# Altium footprint library PCB.PCBLIB: 320 footprints (part 8 of 20)
Each footprint in its own frame and in the unit in brackets; x right, y up, seen from the top. Pads: shape width x height; smd on the part's side, far side on the other; paste and mask are expansions set on the pad; w line width, h text height; cw(c..) or ccw(c..) is an arc to the next point about the centre after c.
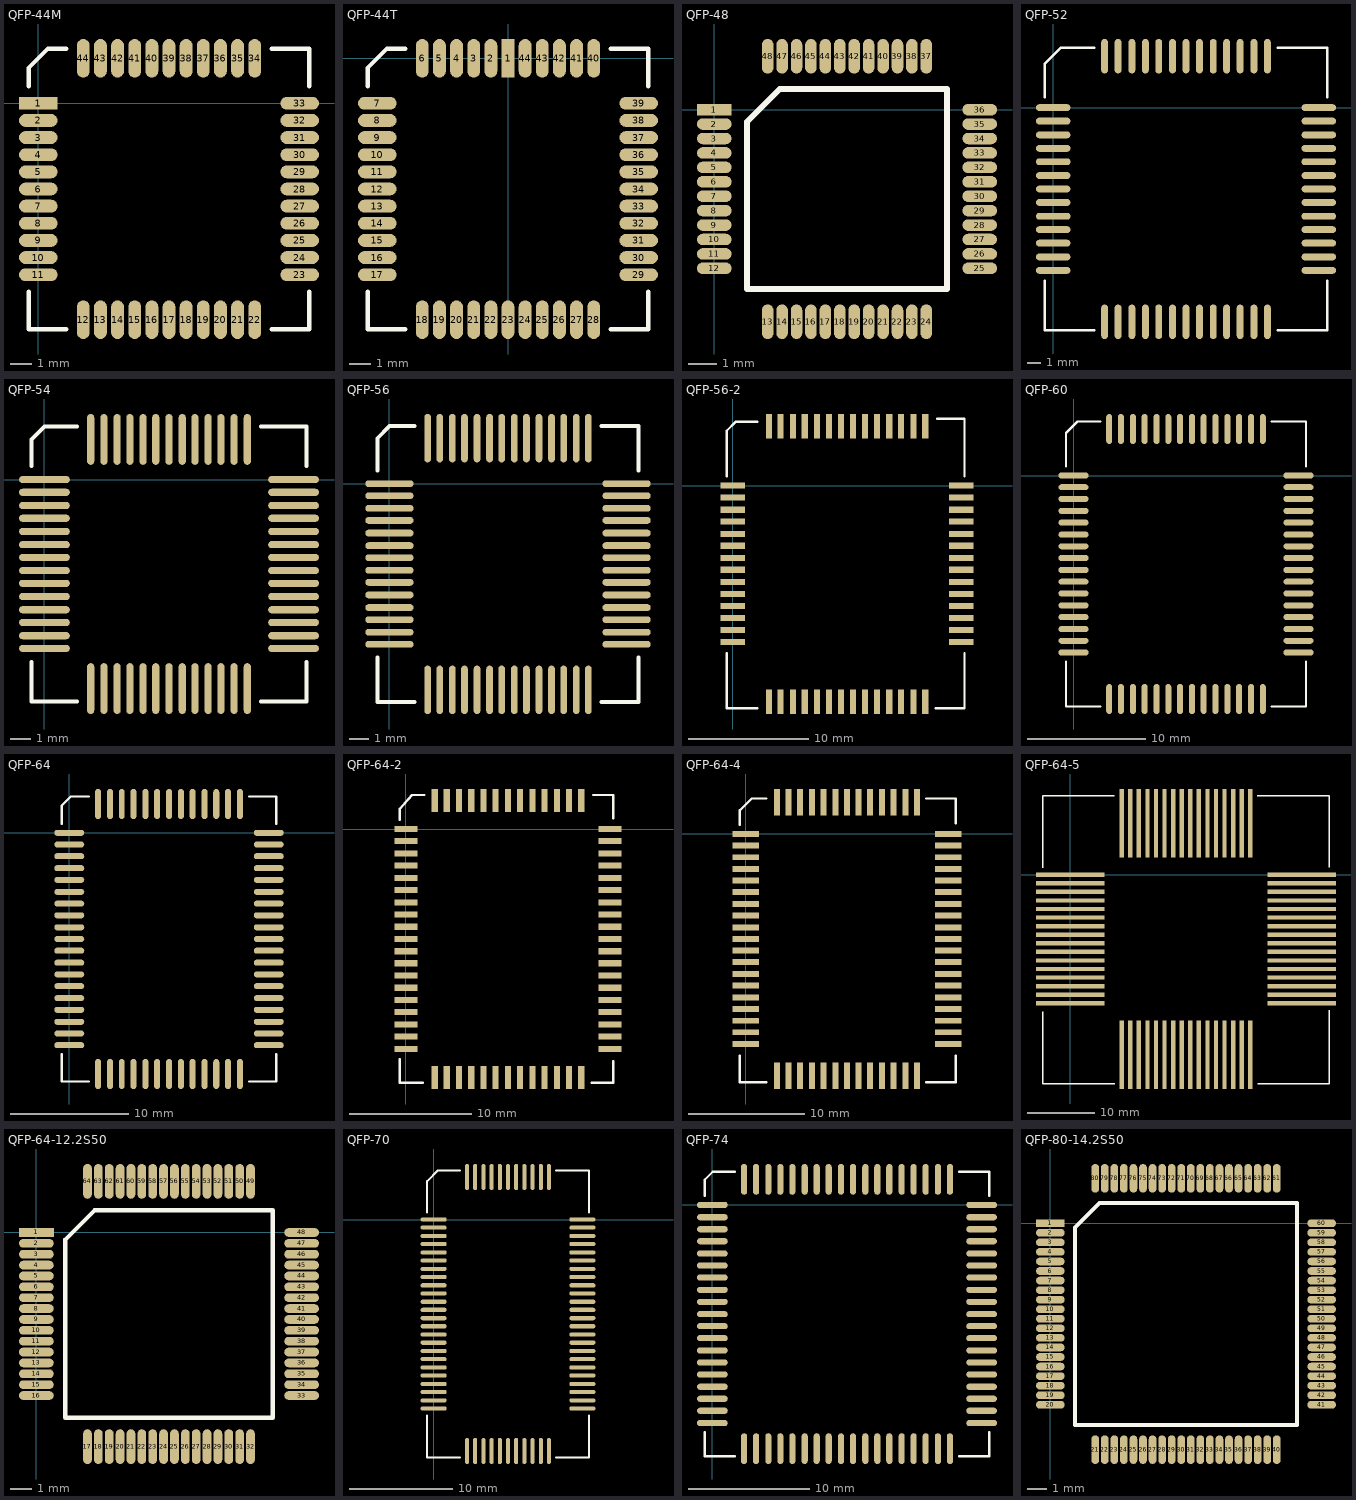
[diagram p7: the footprints below, top view; thin cyan lines are the x and y axes]

## QFP-44M [mm]
pads (44):
  rect 1.8x0.6 smd: 1(0,0)
  oval 1.8x0.6 smd: 2(0,-0.8) 3(0,-1.6) 4(0,-2.4) 5(0,-3.2) 6(0,-4) 7(0,-4.8) 8(0,-5.6) 9(0,-6.4) 10(0,-7.2) 11(0,-8) 23(12.2,-8) 24(12.2,-7.2) 25(12.2,-6.4) 26(12.2,-5.6) 27(12.2,-4.8) 28(12.2,-4) 29(12.2,-3.2) 30(12.2,-2.4) 31(12.2,-1.6) 32(12.2,-0.8) 33(12.2,0)
  oval 0.6x1.8 smd: 12(2.1,-10.1) 13(2.9,-10.1) 14(3.7,-10.1) 15(4.5,-10.1) 16(5.3,-10.1) 17(6.1,-10.1) 18(6.9,-10.1) 19(7.7,-10.1) 20(8.5,-10.1) 21(9.3,-10.1) 22(10.1,-10.1) 34(10.1,2.1) 35(9.3,2.1) 36(8.5,2.1) 37(7.7,2.1) 38(6.9,2.1) 39(6.1,2.1) 40(5.3,2.1) 41(4.5,2.1) 42(3.7,2.1) 43(2.9,2.1) 44(2.1,2.1)
TopOverlay:
  lines w0.2: -0.45,-8.8 -0.45,-10.55 1.3,-10.55 ; -0.45,0.8 -0.45,1.65 0.45,2.55 1.3,2.55 ; 10.9,-10.55 12.65,-10.55 12.65,-8.8 ; 10.9,2.55 12.65,2.55 12.65,0.8

## QFP-44T [mm]
pads (44):
  rect 0.6x1.8 smd: 1(0,0)
  oval 0.6x1.8 smd: 2(-0.8,0) 3(-1.6,0) 4(-2.4,0) 5(-3.2,0) 6(-4,0) 18(-4,-12.2) 19(-3.2,-12.2) 20(-2.4,-12.2) 21(-1.6,-12.2) 22(-0.8,-12.2) 23(0,-12.2) 24(0.8,-12.2) 25(1.6,-12.2) 26(2.4,-12.2) 27(3.2,-12.2) 28(4,-12.2) 40(4,0) 41(3.2,0) 42(2.4,0) 43(1.6,0) 44(0.8,0)
  oval 1.8x0.6 smd: 7(-6.1,-2.1) 8(-6.1,-2.9) 9(-6.1,-3.7) 10(-6.1,-4.5) 11(-6.1,-5.3) 12(-6.1,-6.1) 13(-6.1,-6.9) 14(-6.1,-7.7) 15(-6.1,-8.5) 16(-6.1,-9.3) 17(-6.1,-10.1) 29(6.1,-10.1) 30(6.1,-9.3) 31(6.1,-8.5) 32(6.1,-7.7) 33(6.1,-6.9) 34(6.1,-6.1) 35(6.1,-5.3) 36(6.1,-4.5) 37(6.1,-3.7) 38(6.1,-2.9) 39(6.1,-2.1)
TopOverlay:
  lines w0.2: -6.55,-10.9 -6.55,-12.65 -4.8,-12.65 ; -6.55,-1.3 -6.55,-0.45 -5.65,0.45 -4.8,0.45 ; 4.8,-12.65 6.55,-12.65 6.55,-10.9 ; 4.8,0.45 6.55,0.45 6.55,-1.3

## QFP-48 [mm]
pads (48):
  rect 1.2x0.4 smd: 1(0,0)
  oval 1.2x0.4 smd: 2(0,-0.5) 3(0,-1) 4(0,-1.5) 5(0,-2) 6(0,-2.5) 7(0,-3) 8(0,-3.5) 9(0,-4) 10(0,-4.5) 11(0,-5) 12(0,-5.5) 25(9.2,-5.5) 26(9.2,-5) 27(9.2,-4.5) 28(9.2,-4) 29(9.2,-3.5) 30(9.2,-3) 31(9.2,-2.5) 32(9.2,-2) 33(9.2,-1.5) 34(9.2,-1) 35(9.2,-0.5) 36(9.2,0)
  oval 0.4x1.2 smd: 13(1.85,-7.35) 14(2.35,-7.35) 15(2.85,-7.35) 16(3.35,-7.35) 17(3.85,-7.35) 18(4.35,-7.35) 19(4.85,-7.35) 20(5.35,-7.35) 21(5.85,-7.35) 22(6.35,-7.35) 23(6.85,-7.35) 24(7.35,-7.35) 37(7.35,1.85) 38(6.85,1.85) 39(6.35,1.85) 40(5.85,1.85) 41(5.35,1.85) 42(4.85,1.85) 43(4.35,1.85) 44(3.85,1.85) 45(3.35,1.85) 46(2.85,1.85) 47(2.35,1.85) 48(1.85,1.85)
TopOverlay:
  lines w0.2: 1.135,-6.215 8.065,-6.215 8.065,0.715 2.27,0.715 1.135,-0.42 1.135,-6.215

## QFP-52 [mil]
pads (52):
  oval 100x20 smd: 1(0,0) 2(0,-39) 3(0,-79) 4(0,-118) 5(0,-157) 6(0,-197) 7(0,-236) 8(0,-275) 9(0,-315) 10(0,-354) 11(0,-393) 12(0,-433) 13(0,-472) 27(770,-472) 28(770,-433) 29(770,-393) 30(770,-354) 31(770,-315) 32(770,-275) 33(770,-236) 34(770,-197) 35(770,-157) 36(770,-118) 37(770,-79) 38(770,-39) 39(770,0)
  oval 20x100 smd: 14(149,-621) 15(188,-621) 16(228,-621) 17(267,-621) 18(306,-621) 19(346,-621) 20(385,-621) 21(424,-621) 22(464,-621) 23(503,-621) 24(542,-621) 25(582,-621) 26(621,-621) 40(621,149) 41(582,149) 42(542,149) 43(503,149) 44(464,149) 45(424,149) 46(385,149) 47(346,149) 48(306,149) 49(267,149) 50(228,149) 51(188,149) 52(149,149)
TopOverlay:
  lines w7.87: -25,-502 -25,-646 119,-646 ; -25,30 -25,126 23,174 119,174 ; 651,-646 795,-646 795,-502 ; 651,174 795,174 795,30

## QFP-54 [mil]
pads (54):
  oval 100x14 smd: 1(0,0) 2(0,-25) 3(0,-51) 4(0,-76) 5(0,-102) 6(0,-128) 7(0,-153) 8(0,-179) 9(0,-204) 10(0,-230) 11(0,-256) 12(0,-281) 13(0,-307) 14(0,-332) 28(490,-332) 29(490,-307) 30(490,-281) 31(490,-256) 32(490,-230) 33(490,-204) 34(490,-179) 35(490,-153) 36(490,-128) 37(490,-102) 38(490,-76) 39(490,-51) 40(490,-25) 41(490,0)
  oval 14x100 smd: 15(91,-411) 16(117,-411) 17(143,-411) 18(168,-411) 19(194,-411) 20(219,-411) 21(245,-411) 22(271,-411) 23(296,-411) 24(322,-411) 25(347,-411) 26(373,-411) 27(399,-411) 42(399,79) 43(373,79) 44(347,79) 45(322,79) 46(296,79) 47(271,79) 48(245,79) 49(219,79) 50(194,79) 51(168,79) 52(143,79) 53(117,79) 54(91,79)
TopOverlay:
  lines w7.87: -25,-359 -25,-436 64,-436 ; -25,27 -25,79 0,104 64,104 ; 426,-436 515,-436 515,-359 ; 426,104 515,104 515,27

## QFP-56 [mil]
pads (56):
  oval 100x14 smd: 1(0,0) 2(0,-25) 3(0,-51) 4(0,-76) 5(0,-102) 6(0,-128) 7(0,-153) 8(0,-179) 9(0,-204) 10(0,-230) 11(0,-256) 12(0,-281) 13(0,-307) 14(0,-332) 29(490,-332) 30(490,-307) 31(490,-281) 32(490,-256) 33(490,-230) 34(490,-204) 35(490,-179) 36(490,-153) 37(490,-128) 38(490,-102) 39(490,-76) 40(490,-51) 41(490,-25) 42(490,0)
  oval 14x100 smd: 15(79,-426) 16(104,-426) 17(130,-426) 18(155,-426) 19(181,-426) 20(207,-426) 21(232,-426) 22(258,-426) 23(283,-426) 24(309,-426) 25(335,-426) 26(360,-426) 27(386,-426) 28(411,-426) 43(411,94) 44(386,94) 45(360,94) 46(335,94) 47(309,94) 48(283,94) 49(258,94) 50(232,94) 51(207,94) 52(181,94) 53(155,94) 54(130,94) 55(104,94) 56(79,94)
TopOverlay:
  lines w7.87: -25,-359 -25,-451 52,-451 ; -25,27 -25,94 0,119 52,119 ; 438,-451 515,-451 515,-359 ; 438,119 515,119 515,27

## QFP-56-2 [mil]
pads (56):
  rect 80x20 smd: 1(0,0) 2(0,-39) 3(0,-79) 4(0,-118) 5(0,-158) 6(0,-197) 7(0,-237) 8(0,-276) 9(0,-316) 10(0,-355) 11(0,-395) 12(0,-434) 13(0,-474) 14(0,-513) 29(749,-513) 30(749,-474) 31(749,-434) 32(749,-395) 33(749,-355) 34(749,-316) 35(749,-276) 36(749,-237) 37(749,-197) 38(749,-158) 39(749,-118) 40(749,-79) 41(749,-39) 42(749,0)
  rect 20x80 smd: 15(118,-709) 16(157,-709) 17(197,-709) 18(236,-709) 19(276,-709) 20(315,-709) 21(355,-709) 22(394,-709) 23(434,-709) 24(473,-709) 25(513,-709) 26(552,-709) 27(592,-709) 28(631,-709) 43(631,195) 44(592,195) 45(552,195) 46(513,195) 47(473,195) 48(434,195) 49(394,195) 50(355,195) 51(315,195) 52(276,195) 53(236,195) 54(197,195) 55(157,195) 56(118,195)
TopOverlay:
  lines w7.87: -20,-550 -20,-730 80,-730 ; -20,30 -20,180 10,210 80,210 ; 665,-730 760,-730 760,-550 ; 670,220 760,220 760,30

## QFP-60 [mil]
pads (60):
  oval 100x20 smd: 1(0,0) 2(0,-39) 3(0,-78) 4(0,-118) 5(0,-157) 6(0,-197) 7(0,-236) 8(0,-275) 9(0,-315) 10(0,-354) 11(0,-393) 12(0,-433) 13(0,-472) 14(0,-512) 15(0,-551) 16(0,-590) 31(750,-590) 32(750,-551) 33(750,-512) 34(750,-472) 35(750,-433) 36(750,-393) 37(750,-354) 38(750,-315) 39(750,-275) 40(750,-236) 41(750,-197) 42(750,-157) 43(750,-118) 44(750,-78) 45(750,-39) 46(750,0)
  oval 20x100 smd: 17(119,-745) 18(158,-745) 19(198,-745) 20(237,-745) 21(277,-745) 22(316,-745) 23(355,-745) 24(395,-745) 25(434,-745) 26(473,-745) 27(513,-745) 28(552,-745) 29(592,-745) 30(631,-745) 47(631,155) 48(592,155) 49(552,155) 50(513,155) 51(473,155) 52(434,155) 53(395,155) 54(355,155) 55(316,155) 56(277,155) 57(237,155) 58(198,155) 59(158,155) 60(119,155)
TopOverlay:
  lines w7.87: -25,-620 -25,-770 89,-770 ; -25,30 -25,142 13,180 89,180 ; 661,-770 775,-770 775,-620 ; 661,180 775,180 775,30

## QFP-64 [mil]
pads (64):
  oval 100x20 smd: 1(0,0) 2(0,-39) 3(0,-78) 4(0,-118) 5(0,-157) 6(0,-197) 7(0,-236) 8(0,-275) 9(0,-315) 10(0,-354) 11(0,-393) 12(0,-433) 13(0,-472) 14(0,-511) 15(0,-551) 16(0,-590) 17(0,-630) 18(0,-669) 19(0,-708) 33(665,-708) 34(665,-669) 35(665,-630) 36(665,-590) 37(665,-551) 38(665,-511) 39(665,-472) 40(665,-433) 41(665,-393) 42(665,-354) 43(665,-315) 44(665,-275) 45(665,-236) 46(665,-197) 47(665,-157) 48(665,-118) 49(665,-78) 50(665,-39) 51(665,0)
  oval 20x100 smd: 20(96,-804) 21(136,-804) 22(175,-804) 23(214,-804) 24(254,-804) 25(293,-804) 26(333,-804) 27(372,-804) 28(411,-804) 29(451,-804) 30(490,-804) 31(529,-804) 32(569,-804) 52(569,96) 53(529,96) 54(490,96) 55(451,96) 56(411,96) 57(372,96) 58(333,96) 59(293,96) 60(254,96) 61(214,96) 62(175,96) 63(136,96) 64(96,96)
TopOverlay:
  lines w7.87: -25,-738 -25,-829 66,-829 ; -25,30 -25,91 5,121 66,121 ; 599,-829 690,-829 690,-738 ; 599,121 690,121 690,30

## QFP-64-2 [mil]
pads (64):
  rect 75x20 smd: 1(0,0) 2(0,-39) 3(0,-79) 4(0,-118) 5(0,-158) 6(0,-197) 7(0,-237) 8(0,-276) 9(0,-316) 10(0,-355) 11(0,-395) 12(0,-434) 13(0,-474) 14(0,-513) 15(0,-553) 16(0,-592) 17(0,-632) 18(0,-671) 19(0,-711) 33(660,-711) 34(660,-671) 35(660,-632) 36(660,-592) 37(660,-553) 38(660,-513) 39(660,-474) 40(660,-434) 41(660,-395) 42(660,-355) 43(660,-316) 44(660,-276) 45(660,-237) 46(660,-197) 47(660,-158) 48(660,-118) 49(660,-79) 50(660,-39) 51(660,0)
  rect 20x75 smd: 20(93,-803) 21(132,-803) 22(172,-803) 23(211,-803) 24(251,-803) 25(290,-803) 26(330,-803) 27(369,-803) 28(409,-803) 29(448,-803) 30(488,-803) 31(527,-803) 32(567,-803) 52(567,92) 53(527,92) 54(488,92) 55(448,92) 56(409,92) 57(369,92) 58(330,92) 59(290,92) 60(251,92) 61(211,92) 62(172,92) 63(132,92) 64(93,92)
TopOverlay:
  lines w7.87: -20,-745 -20,-820 55,-820 ; -20,30 -20,65 20,110 60,110 ; 600,-820 670,-820 670,-750 ; 605,110 670,110 670,35

## QFP-64-4 [mil]
pads (64):
  rect 90x20 smd: 1(0,0) 2(0,-39) 3(0,-79) 4(0,-118) 5(0,-158) 6(0,-197) 7(0,-237) 8(0,-276) 9(0,-316) 10(0,-355) 11(0,-395) 12(0,-434) 13(0,-474) 14(0,-513) 15(0,-553) 16(0,-592) 17(0,-632) 18(0,-671) 19(0,-711) 33(685,-711) 34(685,-671) 35(685,-632) 36(685,-592) 37(685,-553) 38(685,-513) 39(685,-474) 40(685,-434) 41(685,-395) 42(685,-355) 43(685,-316) 44(685,-276) 45(685,-237) 46(685,-197) 47(685,-158) 48(685,-118) 49(685,-79) 50(685,-39) 51(685,0)
  rect 20x90 smd: 20(105,-818) 21(145,-818) 22(184,-818) 23(224,-818) 24(263,-818) 25(303,-818) 26(342,-818) 27(382,-818) 28(421,-818) 29(461,-818) 30(500,-818) 31(540,-818) 32(579,-818) 52(579,107) 53(540,107) 54(500,107) 55(461,107) 56(421,107) 57(382,107) 58(342,107) 59(303,107) 60(263,107) 61(224,107) 62(184,107) 63(145,107) 64(105,107)
TopOverlay:
  lines w7.87: -20,-750 -20,-840 70,-840 ; -20,30 -20,80 20,120 70,120 ; 610,-840 710,-840 710,-750 ; 610,120 710,120 710,35

## QFP-64-5 [mil]
pads (64):
  rect 400x25 smd: 1(0,0) 2(0,-50) 3(0,-100) 4(0,-150) 5(0,-200) 6(0,-250) 7(0,-300) 8(0,-350) 9(0,-400) 10(0,-450) 11(0,-500) 12(0,-550) 13(0,-600) 14(0,-650) 15(0,-700) 16(0,-750) 33(1350,-750) 34(1350,-700) 35(1350,-650) 36(1350,-600) 37(1350,-550) 38(1350,-500) 39(1350,-450) 40(1350,-400) 41(1350,-350) 42(1350,-300) 43(1350,-250) 44(1350,-200) 45(1350,-150) 46(1350,-100) 47(1350,-50) 48(1350,0)
  rect 25x400 smd: 17(300,-1050) 18(350,-1050) 19(400,-1050) 20(450,-1050) 21(500,-1050) 22(550,-1050) 23(600,-1050) 24(650,-1050) 25(700,-1050) 26(750,-1050) 27(800,-1050) 28(850,-1050) 29(900,-1050) 30(950,-1050) 31(1000,-1050) 32(1050,-1050) 49(1050,300) 50(1000,300) 51(950,300) 52(900,300) 53(850,300) 54(800,300) 55(750,300) 56(700,300) 57(650,300) 58(600,300) 59(550,300) 60(500,300) 61(450,300) 62(400,300) 63(350,300) 64(300,300)
TopOverlay:
  lines w7.87: -160,-800 -160,-1220 260,-1220 ; -160,40 -160,460 255,460 ; 1090,460 1510,460 1510,45 ; 1095,-1220 1510,-1220 1510,-790

## QFP-64-12.2S50 [mm]
pads (64):
  rect 1.6x0.4 smd: 1(0,0)
  oval 1.6x0.4 smd: 2(0,-0.5) 3(0,-1) 4(0,-1.5) 5(0,-2) 6(0,-2.5) 7(0,-3) 8(0,-3.5) 9(0,-4) 10(0,-4.5) 11(0,-5) 12(0,-5.5) 13(0,-6) 14(0,-6.5) 15(0,-7) 16(0,-7.5) 33(12.2,-7.5) 34(12.2,-7) 35(12.2,-6.5) 36(12.2,-6) 37(12.2,-5.5) 38(12.2,-5) 39(12.2,-4.5) 40(12.2,-4) 41(12.2,-3.5) 42(12.2,-3) 43(12.2,-2.5) 44(12.2,-2) 45(12.2,-1.5) 46(12.2,-1) 47(12.2,-0.5) 48(12.2,0)
  oval 0.4x1.6 smd: 17(2.35,-9.85) 18(2.85,-9.85) 19(3.35,-9.85) 20(3.85,-9.85) 21(4.35,-9.85) 22(4.85,-9.85) 23(5.35,-9.85) 24(5.85,-9.85) 25(6.35,-9.85) 26(6.85,-9.85) 27(7.35,-9.85) 28(7.85,-9.85) 29(8.35,-9.85) 30(8.85,-9.85) 31(9.35,-9.85) 32(9.85,-9.85) 49(9.85,2.35) 50(9.35,2.35) 51(8.85,2.35) 52(8.35,2.35) 53(7.85,2.35) 54(7.35,2.35) 55(6.85,2.35) 56(6.35,2.35) 57(5.85,2.35) 58(5.35,2.35) 59(4.85,2.35) 60(4.35,2.35) 61(3.85,2.35) 62(3.35,2.35) 63(2.85,2.35) 64(2.35,2.35)
TopOverlay:
  lines w0.2: 1.335,-8.515 10.865,-8.515 10.865,1.015 2.67,1.015 1.335,-0.32 1.335,-8.515

## QFP-70 [mil]
pads (70):
  oval 100x16 smd: 1(0,0) 2(0,-31) 3(0,-63) 4(0,-94) 5(0,-126) 6(0,-157) 7(0,-189) 8(0,-220) 9(0,-252) 10(0,-283) 11(0,-315) 12(0,-346) 13(0,-378) 14(0,-409) 15(0,-441) 16(0,-472) 17(0,-504) 18(0,-535) 19(0,-567) 20(0,-598) 21(0,-630) 22(0,-661) 23(0,-693) 24(0,-724) 36(570,-724) 37(570,-693) 38(570,-661) 39(570,-630) 40(570,-598) 41(570,-567) 42(570,-535) 43(570,-504) 44(570,-472) 45(570,-441) 46(570,-409) 47(570,-378) 48(570,-346) 49(570,-315) 50(570,-283) 51(570,-252) 52(570,-220) 53(570,-189) 54(570,-157) 55(570,-126) 56(570,-94) 57(570,-63) 58(570,-31) 59(570,0)
  oval 16x100 smd: 25(128,-887) 26(159,-887) 27(191,-887) 28(222,-887) 29(254,-887) 30(285,-887) 31(316,-887) 32(348,-887) 33(379,-887) 34(411,-887) 35(442,-887) 60(442,163) 61(411,163) 62(379,163) 63(348,163) 64(316,163) 65(285,163) 66(254,163) 67(222,163) 68(191,163) 69(159,163) 70(128,163)
TopOverlay:
  lines w7.87: -25,-752 -25,-912 100,-912 ; -25,28 -25,147 16,188 100,188 ; 470,-912 595,-912 595,-752 ; 470,188 595,188 595,28

## QFP-74 [mil]
pads (74):
  oval 100x20 smd: 1(0,0) 2(0,-40) 3(0,-79) 4(0,-118) 5(0,-158) 6(0,-197) 7(0,-236) 8(0,-276) 9(0,-315) 10(0,-355) 11(0,-394) 12(0,-433) 13(0,-473) 14(0,-512) 15(0,-551) 16(0,-591) 17(0,-630) 18(0,-669) 19(0,-709) 38(875,-709) 39(875,-669) 40(875,-630) 41(875,-591) 42(875,-551) 43(875,-512) 44(875,-473) 45(875,-433) 46(875,-394) 47(875,-355) 48(875,-315) 49(875,-276) 50(875,-236) 51(875,-197) 52(875,-158) 53(875,-118) 54(875,-79) 55(875,-40) 56(875,0)
  oval 20x100 smd: 20(103,-792) 21(142,-792) 22(182,-792) 23(221,-792) 24(260,-792) 25(300,-792) 26(339,-792) 27(378,-792) 28(418,-792) 29(457,-792) 30(497,-792) 31(536,-792) 32(575,-792) 33(615,-792) 34(654,-792) 35(693,-792) 36(733,-792) 37(772,-792) 57(772,83) 58(733,83) 59(693,83) 60(654,83) 61(615,83) 62(575,83) 63(536,83) 64(497,83) 65(457,83) 66(418,83) 67(378,83) 68(339,83) 69(300,83) 70(260,83) 71(221,83) 72(182,83) 73(142,83) 74(103,83)
TopOverlay:
  lines w7.87: -25,-739 -25,-817 73,-817 ; -25,30 -25,82 1,108 73,108 ; 802,-817 900,-817 900,-739 ; 802,108 900,108 900,30

## QFP-80-14.2S50 [mm]
pads (80):
  rect 1.5x0.4 smd: 1(0,0)
  oval 1.5x0.4 smd: 2(0,-0.5) 3(0,-1) 4(0,-1.5) 5(0,-2) 6(0,-2.5) 7(0,-3) 8(0,-3.5) 9(0,-4) 10(0,-4.5) 11(0,-5) 12(0,-5.5) 13(0,-6) 14(0,-6.5) 15(0,-7) 16(0,-7.5) 17(0,-8) 18(0,-8.5) 19(0,-9) 20(0,-9.5) 41(14.2,-9.5) 42(14.2,-9) 43(14.2,-8.5) 44(14.2,-8) 45(14.2,-7.5) 46(14.2,-7) 47(14.2,-6.5) 48(14.2,-6) 49(14.2,-5.5) 50(14.2,-5) 51(14.2,-4.5) 52(14.2,-4) 53(14.2,-3.5) 54(14.2,-3) 55(14.2,-2.5) 56(14.2,-2) 57(14.2,-1.5) 58(14.2,-1) 59(14.2,-0.5) 60(14.2,0)
  oval 0.4x1.5 smd: 21(2.35,-11.85) 22(2.85,-11.85) 23(3.35,-11.85) 24(3.85,-11.85) 25(4.35,-11.85) 26(4.85,-11.85) 27(5.35,-11.85) 28(5.85,-11.85) 29(6.35,-11.85) 30(6.85,-11.85) 31(7.35,-11.85) 32(7.85,-11.85) 33(8.35,-11.85) 34(8.85,-11.85) 35(9.35,-11.85) 36(9.85,-11.85) 37(10.35,-11.85) 38(10.85,-11.85) 39(11.35,-11.85) 40(11.85,-11.85) 61(11.85,2.35) 62(11.35,2.35) 63(10.85,2.35) 64(10.35,2.35) 65(9.85,2.35) 66(9.35,2.35) 67(8.85,2.35) 68(8.35,2.35) 69(7.85,2.35) 70(7.35,2.35) 71(6.85,2.35) 72(6.35,2.35) 73(5.85,2.35) 74(5.35,2.35) 75(4.85,2.35) 76(4.35,2.35) 77(3.85,2.35) 78(3.35,2.35) 79(2.85,2.35) 80(2.35,2.35)
TopOverlay:
  lines w0.2: 1.285,-10.565 1.285,-0.22 2.57,1.065 12.915,1.065 12.915,-10.565 1.285,-10.565